# EAGLE library part TPS54383 (library 1zac)
Buck Converter: 4.5V to 28V Input, Dual 3A Outputs, 300kHz
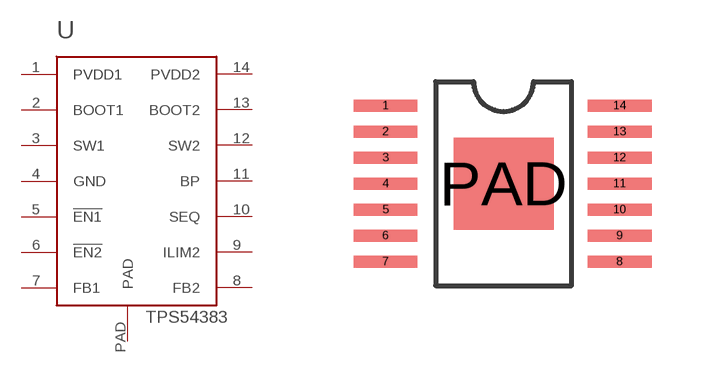
[diagram p6: symbol with the pads of TSSOP-14; footprint TSSOP-14]

Designator prefix -

## TPS54383  [TSSOP-14]
1  PVDD1
2  BOOT1
3  SW1
4  GND
5  !EN1
6  !EN2
7  FB1
8  FB2
9  ILIM2
10  SEQ
11  BP
12  SW2
13  BOOT2
14  PVDD2
PAD  PAD

## Footprint TSSOP-14 (pad centres in mm)
smd 1.6 x 0.3: 1 -2.95,2.15; 2 -2.95,1.5; 3 -2.95,0.85; 4 -2.95,0.2; 5 -2.95,-0.45; 6 -2.95,-1.1; 7 -2.95,-1.75; 8 2.9,-1.75; 9 2.9,-1.1; 10 2.9,-0.45; 11 2.9,0.2; 12 2.9,0.85; 13 2.9,1.5; 14 2.9,2.15
smd 2.5 x 2.3: PAD 0,0.2